# Altium footprint library CP2102 USB转串口.PcbLib: 8 footprints
Each footprint in its own frame and in the unit in brackets; x right, y up, seen from the top. Pads: shape width x height; smd on the part's side, far side on the other; paste and mask are expansions set on the pad; w line width, h text height; cw(c..) or ccw(c..) is an arc to the next point about the centre after c.
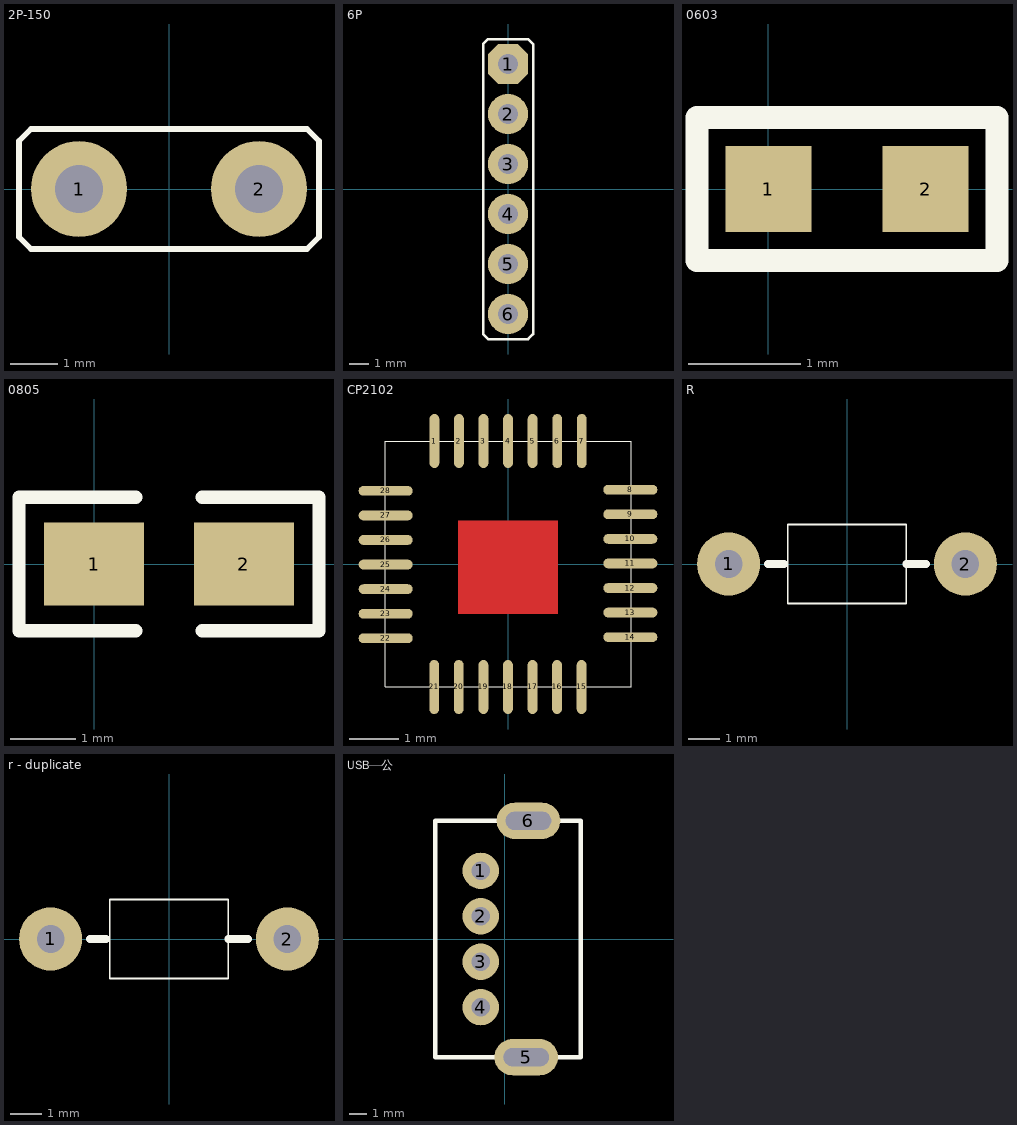
[diagram p0: the footprints below, top view; thin cyan lines are the x and y axes]

## 2P-150 [mil]
pads (2):
  round 80 hole 40: 1(-75,0) 2(75,0)
Top Overlay:
  lines w5: -125,-40 -115,-50 115,-50 125,-40 125,40 115,50 -115,50 -125,40 -125,-40

## 6P [mil]
height 43.31
pads (6):
  oct 80x80 hole 40: 1(0,250)
  round 80 hole 40: 2(0,150) 3(0,50) 4(0,-50) 5(0,-150) 6(0,-250)
Top Overlay:
  lines w5: -50,-290 -50,290 -40,300 40,300 50,290 50,-290 40,-300 -40,-300 -50,-290

## 0603 [mil]
height 43.31
pads (2):
  rect 30x30 smd: 1(0,0) 2(55,0)
Top Overlay:
  lines w8: -25,-25 80,-25 80,25 -25,25 -25,-25

## 0805 [mil]
height 43.31
pads (2):
  rect 60x50 smd: 1(0,0) 2(90,0)
Top Overlay:
  lines w8: 25,-40 -45,-40 -45,40 25,40 ; 65,-40 135,-40 135,40 65,40

## CP2102 [mm]
height 1.1
pads (28):
  oval 0.2x1.1 smd: 1(-1.499,2.502) 2(-0.999,2.502) 3(-0.499,2.502) 4(0.001,2.502) 5(0.501,2.502) 6(1.001,2.502) 7(1.501,2.502) 15(1.499,-2.502) 16(0.999,-2.502) 17(0.499,-2.502) 18(-0.001,-2.502) 19(-0.501,-2.502) 20(-1.001,-2.502) 21(-1.501,-2.502)
  oval 1.1x0.2 smd: 8(2.489,1.511) 9(2.489,1.011) 10(2.489,0.511) 11(2.489,0.011) 12(2.489,-0.489) 13(2.489,-0.989) 14(2.489,-1.489) 22(-2.489,-1.511) 23(-2.489,-1.011) 24(-2.489,-0.511) 25(-2.489,-0.011) 26(-2.489,0.489) 27(-2.489,0.989) 28(-2.489,1.489)
Top Layer:
  rectangle: -1.016,-1.016 1.016,0.889
Top Overlay:
  lines w0.025: -2.496,-2.499 -2.496,2.501 2.504,2.501 2.504,-2.499 -2.496,-2.499

## R [mil]
pads (2):
  round 80 hole 35: 1(-150,0) 2(150,0)
Top Overlay:
  lines w2: -75,-50 -75,50 75,50 75,-50 -75,-50
  lines w10: -100,0 -80,0 ; 75,0 100,0

## r - duplicate [mil]
pads (2):
  round 80 hole 35: 1(-150,0) 2(150,0)
Top Overlay:
  lines w2: -75,-50 -75,50 75,50 75,-50 -75,-50
  lines w10: -100,0 -80,0 ; 75,0 100,0

## USB—公 [mil]
height 43.31
pads (6):
  round 80 hole 40 unplated: 1(-52.5,150) 2(-52.5,50) 3(-52.5,-50) 4(-52.5,-150)
  oval 140x80 hole 40 slot 100 at 0 deg unplated: 5(47.5,-260) 6(52.5,260)
Top Overlay:
  lines w10: -152.5,-260 -152.5,260 167.5,260 167.5,-260 47.5,-260 -152.5,-260